# EAGLE library part DAC8820 (library ICs)
Very high performance, very low THD, current out, 16bit multiplying DAC.
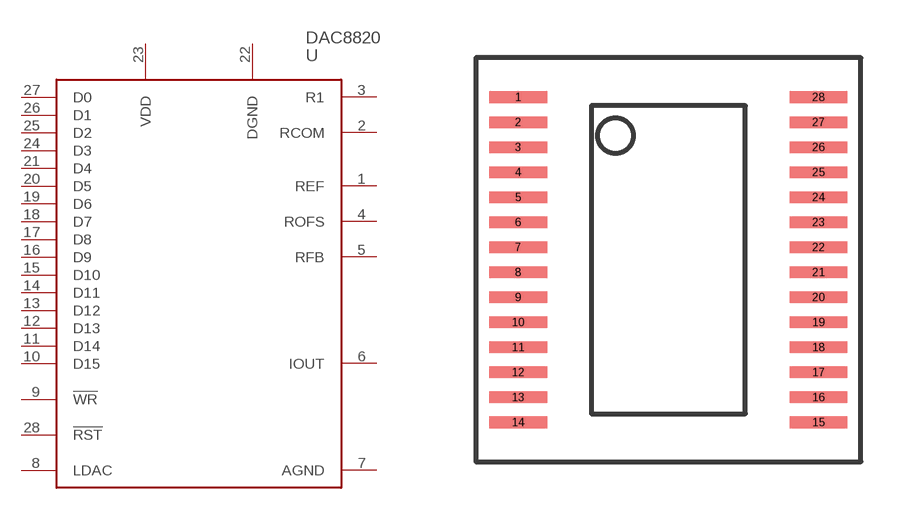
[diagram p34: symbol with the pads of SSOP28; footprint SSOP28]

Designator prefix U

## DAC8820ICDBG4 (FARNELL: 1390688)  [SSOP28]
1  REF
2  RCOM
3  R1
4  ROFS
5  RFB
6  IOUT
7  AGND
8  LDAC
9  !WR
10  D15
11  D14
12  D13
13  D12
14  D11
15  D10
16  D9
17  D8
18  D7
19  D6
20  D5
21  D4
22  DGND
23  VDD
24  D3
25  D2
26  D1
27  D0
28  !RST

## Footprint SSOP28 (pad centres in mm)
smd 1.5 x 0.3: 1 -3.9,4.225; 2 -3.9,3.575; 3 -3.9,2.925; 4 -3.9,2.275; 5 -3.9,1.625; 6 -3.9,0.975; 7 -3.9,0.325; 8 -3.9,-0.325; 9 -3.9,-0.975; 10 -3.9,-1.625; 11 -3.9,-2.275; 12 -3.9,-2.925; 13 -3.9,-3.575; 14 -3.9,-4.225; 15 3.9,-4.225; 16 3.9,-3.575; 17 3.9,-2.925; 18 3.9,-2.275; 19 3.9,-1.625; 20 3.9,-0.975; 21 3.9,-0.325; 22 3.9,0.325; 23 3.9,0.975; 24 3.9,1.625; 25 3.9,2.275; 26 3.9,2.925; 27 3.9,3.575; 28 3.9,4.225